# Altium integrated library Analog Devices Data Converters Digital-to-Analog Converters.IntLib: 2231 symbols (part 143 of 181)
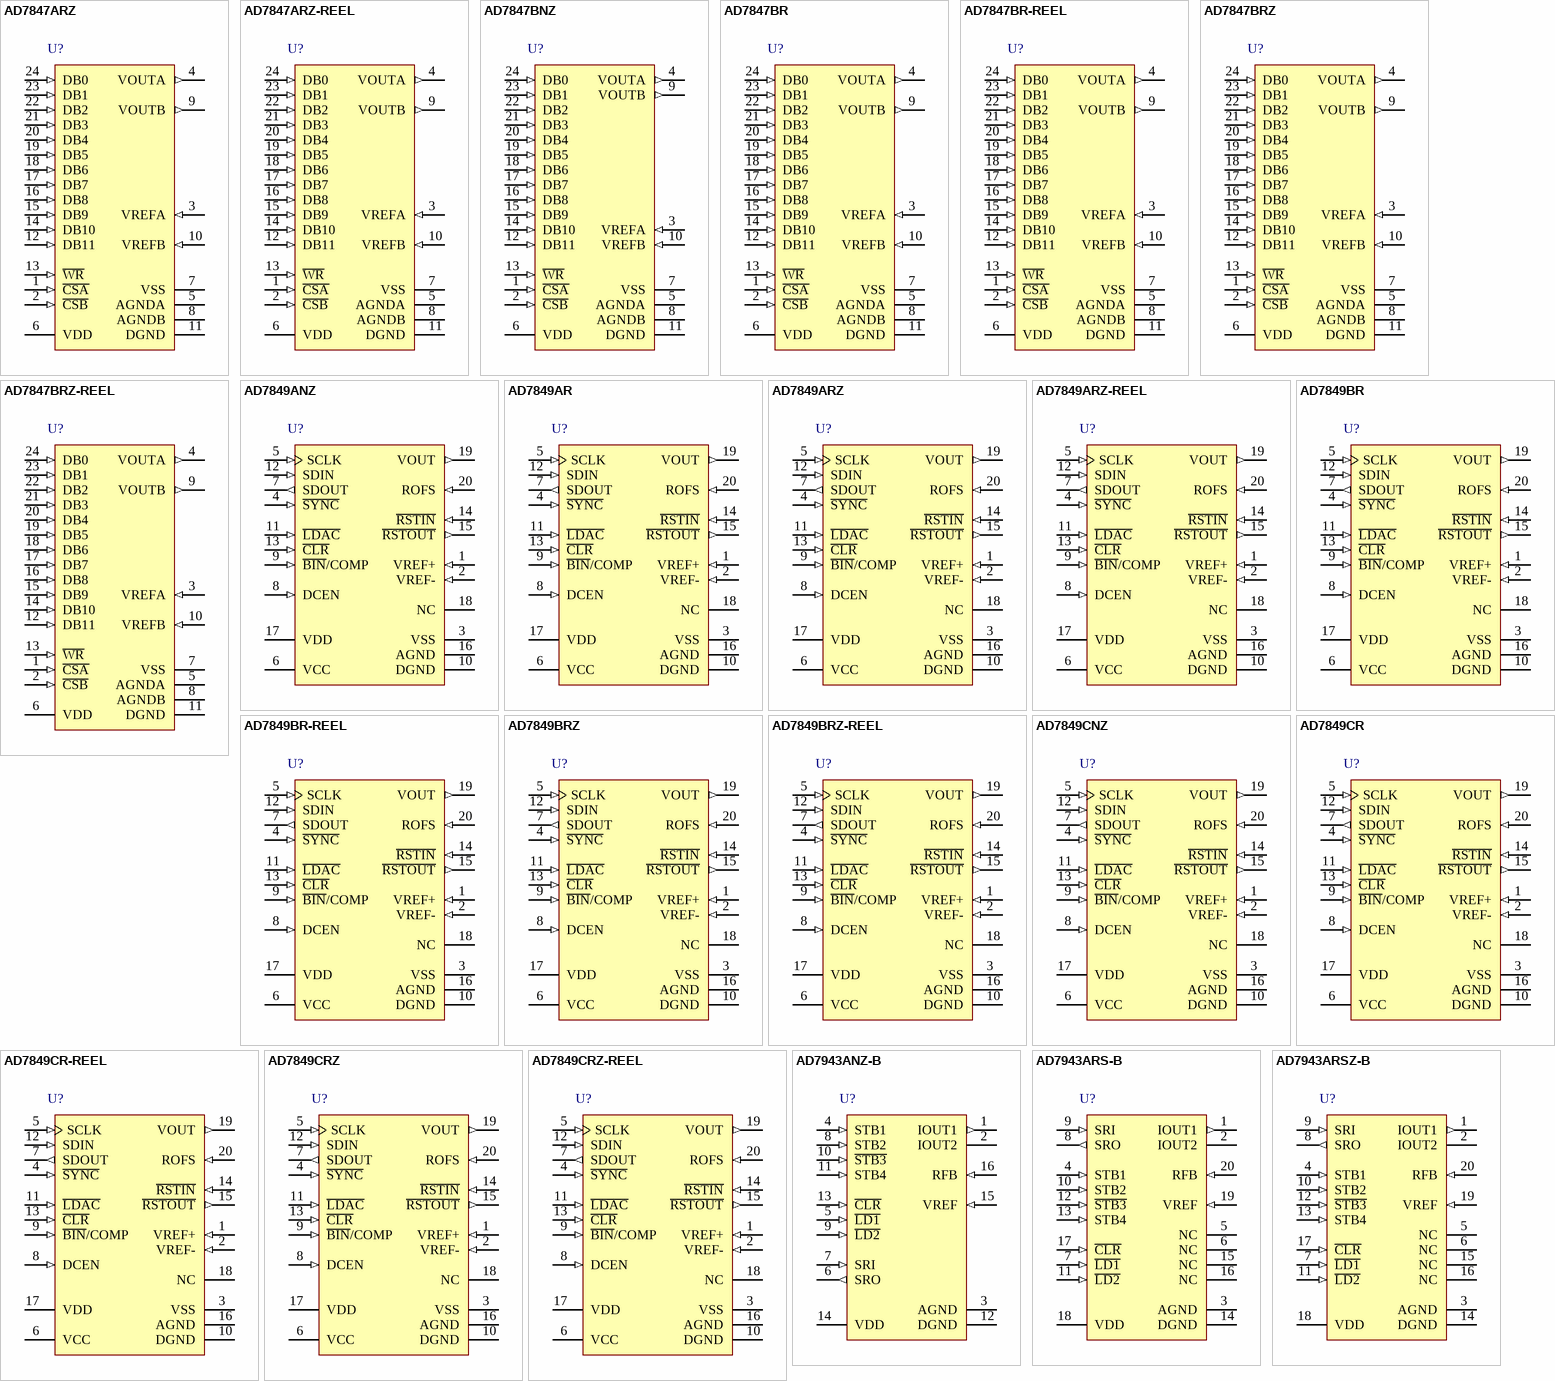
[diagram p256: symbols AD7847ARZ to AD7943ARSZ-B]

## AD7849BRZ
designator U?
Single 16-Bit Digital-to-Analog Converter with Serial Interface, 0 to 70 degC, RW-20, Pb-Free, Tube; Generic Part Number: AD7849; Manufacturer: Analog Devices; PartNumber: AD7849BRZ; # DAC Outputs: 1; Max V+: 15.75V; Op Pwr Diss: 163mW; Resolution (Bits): 16; Settling Time: 7µs; Single Supply: No; DatasheetVersion: Rev.C; PackageVersion: 060706-A; PackageReference: RW-20; PackageDescription: 20-Lead Standard Small Outline Package [SOIC_W] Wide Body; Supplier 1: Digi-Key; Supplier Part Number 1: AD7849BRZ-ND; Supplier 2: Farnell; Supplier Part Number 2: 2305687; Supplier 3: Newark; Supplier Part Number 3: 59K5666; Supplier 4: Mouser; Supplier Part Number 4: 584-AD7849BRZ; Packing: Tube; RoHS: Y; Mounting Technology: Surface Mount; Code_JEDEC: MS-013-AC; ComponentLink1Description: Manufacturer URL; ComponentLink1URL: http://www.analog.com/en/index.html; ComponentLink2Description: Datasheet; ComponentLink2URL: http://www.analog.com/static/imported-files/data_sheets/AD7849.pdf; ComponentLink3Description: Package Specification; ComponentLink3URL: http://www.analog.com/static/imported-files/packages/233848RW_20.pdf; ComponentLink4Description: Product URL; ComponentLink4URL: http://www.analog.com/en/digital-to-analog-converters/da-converters/ad7849/products/product.html
footprint RW-20_N (SOIC, 20-Leads, Body 12.8x7.5mm, Pitch 1.27mm, IPC Medium Density)
footprint RW-20_L (SOIC, 20-Leads, Body 12.8x7.5mm, Pitch 1.27mm, IPC High Density)
footprint RW-20_M (SOIC, 20-Leads, Body 12.8x7.5mm, Pitch 1.27mm, IPC Low Density)
pins: 1 VREF+ (in) "VREF+ Input. The DAC is specified for VREF+ of 5 V. The DAC is fully multiplying so that the VREF+ range is +5 V to -5 V.", 2 VREF- (in) "VREF- Input. The DAC is specified for VREF- of -5 V. The DAC is fully multiplying so that the VREF- range is -5 V to +5 V.", 3 VSS (power) "Negative supply for the analog circuitry. This is nominally -15 V.", 4 ~{SYNC} (in) "Data Synchronization Logic Input. When it goes low, the internal logic is initialized in readiness for a new data-word.", 5 SCLK (in) "Serial Clock Logic Input. Data is clocked into the input register on each SCLK falling edge.", 6 VCC (power) "Positive supply for the digital circuitry. This is nominally 5 V.", 7 SDOUT (out) "Serial Data Output. With DCEN at Logic 1, this output is enabled, and the serial data in the input shift register is clocked out on each rising edge of SCLK.", 8 DCEN (in) "Daisy-Chain Enable Logic Input. Connect this pin high if a daisy-chain interface is being used; otherwise, this pin must be connected low.", 9 ~{BIN}/COMP (in) "Logic Input. This input selects the data format to be either binary or twos complement. In the unipolar output range, natural binary format is selected by connecting the input to Logic 0. In the bipolar output range, offset (See Datasheet)", 10 DGND (power) "Digital Ground. Ground reference point for the on-chip digital circuitry.", 11 ~{LDAC} (in) "Load DAC Logic Input. This input updates the DAC output. The DAC output is updated on the falling edge of this signal, or alternatively, if this input is permanently low, an automatic update mode is selected where the DAC is (See Datasheet)", 12 SDIN (in) "Serial Data Input. The 16-bit serial data-word is applied to this input.", 13 ~{CLR} (in) "Clear Logic Input. Taking this input low sets VOUT to 0 V in both the unipolar output range and the bipolar twos complement output range. It sets VOUT to VREF- in the offset binary bipolar output range.", 14 ~{RSTIN} (in) "Reset Logic Input. This input allows external access to the internal reset logic. Applying Logic 0 to this input,resets the DAC output to 0 V. In normal operation, it should be tied to Logic 1.", 15 ~{RSTOUT} (out) "Reset Logic Output. This is the output from the on-chip voltage monitor used in the reset circuit. It can be used to control other system components, if desired", 16 AGND (power) "This is the analog ground for the device. It is the point to which the output gets shorted in reset mode.", 17 VDD (power) "Positive Supply for the Analog Circuitry. This is 15 V nominal.", 18 NC "No Connect. Leave unconnected.", 19 VOUT (out) "DAC Output Voltage Pin.", 20 ROFS (in) "Input to Summing Resistor of DAC Output Amplifier. This is used to select the output voltage ranges. Also, see Figure 20 to Figure 23 in the Applying the AD7849 section."

## AD7849BRZ-REEL
designator U?
Single 16-Bit Digital-to-Analog Converter with Serial Interface, 0 to 70 degC, RW-20, Pb-Free, Reel; Generic Part Number: AD7849; Manufacturer: Analog Devices; PartNumber: AD7849BRZ-REEL; # DAC Outputs: 1; Max V+: 15.75V; Op Pwr Diss: 163mW; Resolution (Bits): 16; Settling Time: 7µs; Single Supply: No; DatasheetVersion: Rev.C; PackageVersion: 060706-A; PackageReference: RW-20; PackageDescription: 20-Lead Standard Small Outline Package [SOIC_W] Wide Body; Supplier 1: Digi-Key; Supplier Part Number 1: AD7849BRZ-REEL-ND; Supplier 2: Newark; Supplier Part Number 2: 59K5667; Supplier 3: Mouser; Supplier Part Number 3: 584-AD7849BRZ-R; Packing: Reel; RoHS: Y; Mounting Technology: Surface Mount; Code_JEDEC: MS-013-AC; ComponentLink1Description: Manufacturer URL; ComponentLink1URL: http://www.analog.com/en/index.html; ComponentLink2Description: Datasheet; ComponentLink2URL: http://www.analog.com/static/imported-files/data_sheets/AD7849.pdf; ComponentLink3Description: Package Specification; ComponentLink3URL: http://www.analog.com/static/imported-files/packages/233848RW_20.pdf; ComponentLink4Description: Product URL; ComponentLink4URL: http://www.analog.com/en/digital-to-analog-converters/da-converters/ad7849/products/product.html
footprint RW-20_N (SOIC, 20-Leads, Body 12.8x7.5mm, Pitch 1.27mm, IPC Medium Density)
footprint RW-20_L (SOIC, 20-Leads, Body 12.8x7.5mm, Pitch 1.27mm, IPC High Density)
footprint RW-20_M (SOIC, 20-Leads, Body 12.8x7.5mm, Pitch 1.27mm, IPC Low Density)
pins: 1 VREF+ (in) "VREF+ Input. The DAC is specified for VREF+ of 5 V. The DAC is fully multiplying so that the VREF+ range is +5 V to -5 V.", 2 VREF- (in) "VREF- Input. The DAC is specified for VREF- of -5 V. The DAC is fully multiplying so that the VREF- range is -5 V to +5 V.", 3 VSS (power) "Negative supply for the analog circuitry. This is nominally -15 V.", 4 ~{SYNC} (in) "Data Synchronization Logic Input. When it goes low, the internal logic is initialized in readiness for a new data-word.", 5 SCLK (in) "Serial Clock Logic Input. Data is clocked into the input register on each SCLK falling edge.", 6 VCC (power) "Positive supply for the digital circuitry. This is nominally 5 V.", 7 SDOUT (out) "Serial Data Output. With DCEN at Logic 1, this output is enabled, and the serial data in the input shift register is clocked out on each rising edge of SCLK.", 8 DCEN (in) "Daisy-Chain Enable Logic Input. Connect this pin high if a daisy-chain interface is being used; otherwise, this pin must be connected low.", 9 ~{BIN}/COMP (in) "Logic Input. This input selects the data format to be either binary or twos complement. In the unipolar output range, natural binary format is selected by connecting the input to Logic 0. In the bipolar output range, offset (See Datasheet)", 10 DGND (power) "Digital Ground. Ground reference point for the on-chip digital circuitry.", 11 ~{LDAC} (in) "Load DAC Logic Input. This input updates the DAC output. The DAC output is updated on the falling edge of this signal, or alternatively, if this input is permanently low, an automatic update mode is selected where the DAC is (See Datasheet)", 12 SDIN (in) "Serial Data Input. The 16-bit serial data-word is applied to this input.", 13 ~{CLR} (in) "Clear Logic Input. Taking this input low sets VOUT to 0 V in both the unipolar output range and the bipolar twos complement output range. It sets VOUT to VREF- in the offset binary bipolar output range.", 14 ~{RSTIN} (in) "Reset Logic Input. This input allows external access to the internal reset logic. Applying Logic 0 to this input,resets the DAC output to 0 V. In normal operation, it should be tied to Logic 1.", 15 ~{RSTOUT} (out) "Reset Logic Output. This is the output from the on-chip voltage monitor used in the reset circuit. It can be used to control other system components, if desired", 16 AGND (power) "This is the analog ground for the device. It is the point to which the output gets shorted in reset mode.", 17 VDD (power) "Positive Supply for the Analog Circuitry. This is 15 V nominal.", 18 NC "No Connect. Leave unconnected.", 19 VOUT (out) "DAC Output Voltage Pin.", 20 ROFS (in) "Input to Summing Resistor of DAC Output Amplifier. This is used to select the output voltage ranges. Also, see Figure 20 to Figure 23 in the Applying the AD7849 section."

## AD7849CNZ
designator U?
Single 16-Bit Digital-to-Analog Converter with Serial Interface, -40 to +85 degC, N-20, Pb-Free, Tube; Generic Part Number: AD7849; Manufacturer: Analog Devices; PartNumber: AD7849CNZ; # DAC Outputs: 1; Max V+: 15.75V; Op Pwr Diss: 163mW; Resolution (Bits): 16; Settling Time: 7µs; Single Supply: No; DatasheetVersion: Rev.C; PackageVersion: 070706-A; PackageReference: N-20; PackageDescription: 20-Lead Plastic Dual In-Line Package [PDIP] Narrow Body; Supplier 1: Digi-Key; Supplier Part Number 1: AD7849CNZ-ND; Supplier 2: Mouser; Supplier Part Number 2: 584-AD7849CNZ; Packing: Tube; RoHS: Y; Mounting Technology: Through Hole; Code_JEDEC: MS-001; ComponentLink1Description: Manufacturer URL; ComponentLink1URL: http://www.analog.com/en/index.html; ComponentLink2Description: Datasheet; ComponentLink2URL: http://www.analog.com/static/imported-files/data_sheets/AD7849.pdf; ComponentLink3Description: Package Specification; ComponentLink3URL: http://www.analog.com/static/imported-files/packages/50601349676519N_20.pdf; ComponentLink4Description: Product URL; ComponentLink4URL: http://www.analog.com/en/digital-to-analog-converters/da-converters/ad7849/products/product.html
footprint N-20 (DIP, 20-Leads, Row Spacing 7.62mm, Pitch 2.54mm, Body 25.9x6.6mm)
pins: 1 VREF+ (in) "VREF+ Input. The DAC is specified for VREF+ of 5 V. The DAC is fully multiplying so that the VREF+ range is +5 V to -5 V.", 2 VREF- (in) "VREF? Input. The DAC is specified for VREF- of -5 V. The DAC is fully multiplying so that the VREF- range is -5 V to +5 V.", 3 VSS (power) "Negative supply for the analog circuitry. This is nominally -15 V.", 4 ~{SYNC} (in) "Data Synchronization Logic Input. When it goes low, the internal logic is initialized in readiness for a new data-word.", 5 SCLK (in) "Serial Clock Logic Input. Data is clocked into the input register on each SCLK falling edge.", 6 VCC (power) "Positive supply for the digital circuitry. This is nominally 5 V.", 7 SDOUT (out) "Serial Data Output. With DCEN at Logic 1, this output is enabled, and the serial data in the input shift register is clocked out on each rising edge of SCLK.", 8 DCEN (in) "Daisy-Chain Enable Logic Input. Connect this pin high if a daisy-chain interface is being used; otherwise, this pin must be connected low.", 9 ~{BIN}/COMP (in) "Logic Input. This input selects the data format to be either binary or twos complement. In the unipolar output range, natural binary format is selected by connecting the input to Logic 0. In the bipolar output range, offset (See Datasheet)", 10 DGND (power) "Digital Ground. Ground reference point for the on-chip digital circuitry.", 11 ~{LDAC} (in) "Load DAC Logic Input. This input updates the DAC output. The DAC output is updated on the falling edge of this signal, or alternatively, if this input is permanently low, an automatic update mode is selected where the DAC is (See Datasheet)", 12 SDIN (in) "Serial Data Input. The 16-bit serial data-word is applied to this input.", 13 ~{CLR} (in) "Clear Logic Input. Taking this input low sets VOUT to 0 V in both the unipolar output range and the bipolar twos complement output range. It sets VOUT to VREF- in the offset binary bipolar output range.", 14 ~{RSTIN} (in) "Reset Logic Input. This input allows external access to the internal reset logic. Applying Logic 0 to this input,resets the DAC output to 0 V. In normal operation, it should be tied to Logic 1.", 15 ~{RSTOUT} (out) "Reset Logic Output. This is the output from the on-chip voltage monitor used in the reset circuit. It can be used to control other system components, if desired", 16 AGND (power) "This is the analog ground for the device. It is the point to which the output gets shorted in reset mode.", 17 VDD (power) "Positive Supply for the Analog Circuitry. This is 15 V nominal.", 18 NC "No Connect. Leave unconnected.", 19 VOUT (out) "DAC Output Voltage Pin.", 20 ROFS (in) "Input to Summing Resistor of DAC Output Amplifier. This is used to select the output voltage ranges. Also, see Figure 20 to Figure 23 in the Applying the AD7849 section."

## AD7849CR
designator U?
Single 16-Bit Digital-to-Analog Converter with Serial Interface, -40 to +85 degC, RW-20, Tube; Generic Part Number: AD7849; Manufacturer: Analog Devices; PartNumber: AD7849CR; # DAC Outputs: 1; Max V+: 15.75V; Op Pwr Diss: 163mW; Resolution (Bits): 16; Settling Time: 7µs; Single Supply: No; DatasheetVersion: Rev.C; PackageVersion: 060706-A; PackageReference: RW-20; PackageDescription: 20-Lead Standard Small Outline Package [SOIC_W] Wide Body; Supplier 1: Digi-Key; Supplier Part Number 1: AD7849CR-ND; Supplier 2: Mouser; Supplier Part Number 2: 584-AD7849CR; Packing: Tube; RoHS: N; Mounting Technology: Surface Mount; Code_JEDEC: MS-013-AC; ComponentLink1Description: Manufacturer URL; ComponentLink1URL: http://www.analog.com/en/index.html; ComponentLink2Description: Datasheet; ComponentLink2URL: http://www.analog.com/static/imported-files/data_sheets/AD7849.pdf; ComponentLink3Description: Package Specification; ComponentLink3URL: http://www.analog.com/static/imported-files/packages/233848RW_20.pdf; ComponentLink4Description: Product URL; ComponentLink4URL: http://www.analog.com/en/digital-to-analog-converters/da-converters/ad7849/products/product.html
footprint RW-20_N (SOIC, 20-Leads, Body 12.8x7.5mm, Pitch 1.27mm, IPC Medium Density)
footprint RW-20_L (SOIC, 20-Leads, Body 12.8x7.5mm, Pitch 1.27mm, IPC High Density)
footprint RW-20_M (SOIC, 20-Leads, Body 12.8x7.5mm, Pitch 1.27mm, IPC Low Density)
pins: 1 VREF+ (in) "VREF+ Input. The DAC is specified for VREF+ of 5 V. The DAC is fully multiplying so that the VREF+ range is +5 V to -5 V.", 2 VREF- (in) "VREF- Input. The DAC is specified for VREF- of -5 V. The DAC is fully multiplying so that the VREF- range is -5 V to +5 V.", 3 VSS (power) "Negative supply for the analog circuitry. This is nominally -15 V.", 4 ~{SYNC} (in) "Data Synchronization Logic Input. When it goes low, the internal logic is initialized in readiness for a new data-word.", 5 SCLK (in) "Serial Clock Logic Input. Data is clocked into the input register on each SCLK falling edge.", 6 VCC (power) "Positive supply for the digital circuitry. This is nominally 5 V.", 7 SDOUT (out) "Serial Data Output. With DCEN at Logic 1, this output is enabled, and the serial data in the input shift register is clocked out on each rising edge of SCLK.", 8 DCEN (in) "Daisy-Chain Enable Logic Input. Connect this pin high if a daisy-chain interface is being used; otherwise, this pin must be connected low.", 9 ~{BIN}/COMP (in) "Logic Input. This input selects the data format to be either binary or twos complement. In the unipolar output range, natural binary format is selected by connecting the input to Logic 0. In the bipolar output range, offset (See Datasheet)", 10 DGND (power) "Digital Ground. Ground reference point for the on-chip digital circuitry.", 11 ~{LDAC} (in) "Load DAC Logic Input. This input updates the DAC output. The DAC output is updated on the falling edge of this signal, or alternatively, if this input is permanently low, an automatic update mode is selected where the DAC is (See Datasheet)", 12 SDIN (in) "Serial Data Input. The 16-bit serial data-word is applied to this input.", 13 ~{CLR} (in) "Clear Logic Input. Taking this input low sets VOUT to 0 V in both the unipolar output range and the bipolar twos complement output range. It sets VOUT to VREF- in the offset binary bipolar output range.", 14 ~{RSTIN} (in) "Reset Logic Input. This input allows external access to the internal reset logic. Applying Logic 0 to this input,resets the DAC output to 0 V. In normal operation, it should be tied to Logic 1.", 15 ~{RSTOUT} (out) "Reset Logic Output. This is the output from the on-chip voltage monitor used in the reset circuit. It can be used to control other system components, if desired", 16 AGND (power) "This is the analog ground for the device. It is the point to which the output gets shorted in reset mode.", 17 VDD (power) "Positive Supply for the Analog Circuitry. This is 15 V nominal.", 18 NC "No Connect. Leave unconnected.", 19 VOUT (out) "DAC Output Voltage Pin.", 20 ROFS (in) "Input to Summing Resistor of DAC Output Amplifier. This is used to select the output voltage ranges. Also, see Figure 20 to Figure 23 in the Applying the AD7849 section."

## AD7849CR-REEL
designator U?
Single 16-Bit Digital-to-Analog Converter with Serial Interface, -40 to +85 degC, RW-20, Reel; Generic Part Number: AD7849; Manufacturer: Analog Devices; PartNumber: AD7849CR-REEL; # DAC Outputs: 1; Max V+: 15.75V; Op Pwr Diss: 163mW; Resolution (Bits): 16; Settling Time: 7µs; Single Supply: No; DatasheetVersion: Rev.C; PackageVersion: 060706-A; PackageReference: RW-20; PackageDescription: 20-Lead Standard Small Outline Package [SOIC_W] Wide Body; Supplier 1: Digi-Key; Supplier Part Number 1: AD7849CR-REEL-ND; Supplier 2: Mouser; Supplier Part Number 2: 584-AD7849CR-R; Packing: Reel; RoHS: N; Mounting Technology: Surface Mount; Code_JEDEC: MS-013-AC; ComponentLink1Description: Manufacturer URL; ComponentLink1URL: http://www.analog.com/en/index.html; ComponentLink2Description: Datasheet; ComponentLink2URL: http://www.analog.com/static/imported-files/data_sheets/AD7849.pdf; ComponentLink3Description: Package Specification; ComponentLink3URL: http://www.analog.com/static/imported-files/packages/233848RW_20.pdf; ComponentLink4Description: Product URL; ComponentLink4URL: http://www.analog.com/en/digital-to-analog-converters/da-converters/ad7849/products/product.html
footprint RW-20_N (SOIC, 20-Leads, Body 12.8x7.5mm, Pitch 1.27mm, IPC Medium Density)
footprint RW-20_L (SOIC, 20-Leads, Body 12.8x7.5mm, Pitch 1.27mm, IPC High Density)
footprint RW-20_M (SOIC, 20-Leads, Body 12.8x7.5mm, Pitch 1.27mm, IPC Low Density)
pins: 1 VREF+ (in) "VREF+ Input. The DAC is specified for VREF+ of 5 V. The DAC is fully multiplying so that the VREF+ range is +5 V to -5 V.", 2 VREF- (in) "VREF- Input. The DAC is specified for VREF- of -5 V. The DAC is fully multiplying so that the VREF- range is -5 V to +5 V.", 3 VSS (power) "Negative supply for the analog circuitry. This is nominally -15 V.", 4 ~{SYNC} (in) "Data Synchronization Logic Input. When it goes low, the internal logic is initialized in readiness for a new data-word.", 5 SCLK (in) "Serial Clock Logic Input. Data is clocked into the input register on each SCLK falling edge.", 6 VCC (power) "Positive supply for the digital circuitry. This is nominally 5 V.", 7 SDOUT (out) "Serial Data Output. With DCEN at Logic 1, this output is enabled, and the serial data in the input shift register is clocked out on each rising edge of SCLK.", 8 DCEN (in) "Daisy-Chain Enable Logic Input. Connect this pin high if a daisy-chain interface is being used; otherwise, this pin must be connected low.", 9 ~{BIN}/COMP (in) "Logic Input. This input selects the data format to be either binary or twos complement. In the unipolar output range, natural binary format is selected by connecting the input to Logic 0. In the bipolar output range, offset (See Datasheet)", 10 DGND (power) "Digital Ground. Ground reference point for the on-chip digital circuitry.", 11 ~{LDAC} (in) "Load DAC Logic Input. This input updates the DAC output. The DAC output is updated on the falling edge of this signal, or alternatively, if this input is permanently low, an automatic update mode is selected where the DAC is (See Datasheet)", 12 SDIN (in) "Serial Data Input. The 16-bit serial data-word is applied to this input.", 13 ~{CLR} (in) "Clear Logic Input. Taking this input low sets VOUT to 0 V in both the unipolar output range and the bipolar twos complement output range. It sets VOUT to VREF- in the offset binary bipolar output range.", 14 ~{RSTIN} (in) "Reset Logic Input. This input allows external access to the internal reset logic. Applying Logic 0 to this input,resets the DAC output to 0 V. In normal operation, it should be tied to Logic 1.", 15 ~{RSTOUT} (out) "Reset Logic Output. This is the output from the on-chip voltage monitor used in the reset circuit. It can be used to control other system components, if desired", 16 AGND (power) "This is the analog ground for the device. It is the point to which the output gets shorted in reset mode.", 17 VDD (power) "Positive Supply for the Analog Circuitry. This is 15 V nominal.", 18 NC "No Connect. Leave unconnected.", 19 VOUT (out) "DAC Output Voltage Pin.", 20 ROFS (in) "Input to Summing Resistor of DAC Output Amplifier. This is used to select the output voltage ranges. Also, see Figure 20 to Figure 23 in the Applying the AD7849 section."

## AD7849CRZ
designator U?
Single 16-Bit Digital-to-Analog Converter with Serial Interface, 0 to 70 degC, RW-20, Pb-Free, Tube; Generic Part Number: AD7849; Manufacturer: Analog Devices; PartNumber: AD7849CRZ; # DAC Outputs: 1; Max V+: 15.75V; Op Pwr Diss: 163mW; Resolution (Bits): 16; Settling Time: 7µs; Single Supply: No; DatasheetVersion: Rev.C; PackageVersion: 060706-A; PackageReference: RW-20; PackageDescription: 20-Lead Standard Small Outline Package [SOIC_W] Wide Body; Supplier 1: Digi-Key; Supplier Part Number 1: AD7849CRZ-ND; Supplier 2: Farnell; Supplier Part Number 2: 2305688; Supplier 3: Newark; Supplier Part Number 3: 84W7448; Supplier 4: Newark; Supplier Part Number 4: 59K5668; Supplier 5: Mouser; Supplier Part Number 5: 584-AD7849CRZ; Packing: Tube; RoHS: Y; Mounting Technology: Surface Mount; Code_JEDEC: MS-013-AC; ComponentLink1Description: Manufacturer URL; ComponentLink1URL: http://www.analog.com/en/index.html; ComponentLink2Description: Datasheet; ComponentLink2URL: http://www.analog.com/static/imported-files/data_sheets/AD7849.pdf; ComponentLink3Description: Package Specification; ComponentLink3URL: http://www.analog.com/static/imported-files/packages/233848RW_20.pdf; ComponentLink4Description: Product URL; ComponentLink4URL: http://www.analog.com/en/digital-to-analog-converters/da-converters/ad7849/products/product.html
footprint RW-20_N (SOIC, 20-Leads, Body 12.8x7.5mm, Pitch 1.27mm, IPC Medium Density)
footprint RW-20_L (SOIC, 20-Leads, Body 12.8x7.5mm, Pitch 1.27mm, IPC High Density)
footprint RW-20_M (SOIC, 20-Leads, Body 12.8x7.5mm, Pitch 1.27mm, IPC Low Density)
pins: 1 VREF+ (in) "VREF+ Input. The DAC is specified for VREF+ of 5 V. The DAC is fully multiplying so that the VREF+ range is +5 V to -5 V.", 2 VREF- (in) "VREF- Input. The DAC is specified for VREF- of -5 V. The DAC is fully multiplying so that the VREF- range is -5 V to +5 V.", 3 VSS (power) "Negative supply for the analog circuitry. This is nominally -15 V.", 4 ~{SYNC} (in) "Data Synchronization Logic Input. When it goes low, the internal logic is initialized in readiness for a new data-word.", 5 SCLK (in) "Serial Clock Logic Input. Data is clocked into the input register on each SCLK falling edge.", 6 VCC (power) "Positive supply for the digital circuitry. This is nominally 5 V.", 7 SDOUT (out) "Serial Data Output. With DCEN at Logic 1, this output is enabled, and the serial data in the input shift register is clocked out on each rising edge of SCLK.", 8 DCEN (in) "Daisy-Chain Enable Logic Input. Connect this pin high if a daisy-chain interface is being used; otherwise, this pin must be connected low.", 9 ~{BIN}/COMP (in) "Logic Input. This input selects the data format to be either binary or twos complement. In the unipolar output range, natural binary format is selected by connecting the input to Logic 0. In the bipolar output range, offset (See Datasheet)", 10 DGND (power) "Digital Ground. Ground reference point for the on-chip digital circuitry.", 11 ~{LDAC} (in) "Load DAC Logic Input. This input updates the DAC output. The DAC output is updated on the falling edge of this signal, or alternatively, if this input is permanently low, an automatic update mode is selected where the DAC is (See Datasheet)", 12 SDIN (in) "Serial Data Input. The 16-bit serial data-word is applied to this input.", 13 ~{CLR} (in) "Clear Logic Input. Taking this input low sets VOUT to 0 V in both the unipolar output range and the bipolar twos complement output range. It sets VOUT to VREF- in the offset binary bipolar output range.", 14 ~{RSTIN} (in) "Reset Logic Input. This input allows external access to the internal reset logic. Applying Logic 0 to this input,resets the DAC output to 0 V. In normal operation, it should be tied to Logic 1.", 15 ~{RSTOUT} (out) "Reset Logic Output. This is the output from the on-chip voltage monitor used in the reset circuit. It can be used to control other system components, if desired", 16 AGND (power) "This is the analog ground for the device. It is the point to which the output gets shorted in reset mode.", 17 VDD (power) "Positive Supply for the Analog Circuitry. This is 15 V nominal.", 18 NC "No Connect. Leave unconnected.", 19 VOUT (out) "DAC Output Voltage Pin.", 20 ROFS (in) "Input to Summing Resistor of DAC Output Amplifier. This is used to select the output voltage ranges. Also, see Figure 20 to Figure 23 in the Applying the AD7849 section."

## AD7849CRZ-REEL
designator U?
Single 16-Bit Digital-to-Analog Converter with Serial Interface, 0 to 70 degC, RW-20, Pb-Free, Reel; Generic Part Number: AD7849; Manufacturer: Analog Devices; PartNumber: AD7849CRZ-REEL; # DAC Outputs: 1; Max V+: 15.75V; Op Pwr Diss: 163mW; Resolution (Bits): 16; Settling Time: 7µs; Single Supply: No; DatasheetVersion: Rev.C; PackageVersion: 060706-A; PackageReference: RW-20; PackageDescription: 20-Lead Standard Small Outline Package [SOIC_W] Wide Body; Supplier 1: Digi-Key; Supplier Part Number 1: AD7849CRZ-REEL-ND; Supplier 2: Newark; Supplier Part Number 2: 59K5669; Supplier 3: Mouser; Supplier Part Number 3: 584-AD7849CRZ-R; Packing: Reel; RoHS: Y; Mounting Technology: Surface Mount; Code_JEDEC: MS-013-AC; ComponentLink1Description: Manufacturer URL; ComponentLink1URL: http://www.analog.com/en/index.html; ComponentLink2Description: Datasheet; ComponentLink2URL: http://www.analog.com/static/imported-files/data_sheets/AD7849.pdf; ComponentLink3Description: Package Specification; ComponentLink3URL: http://www.analog.com/static/imported-files/packages/233848RW_20.pdf; ComponentLink4Description: Product URL; ComponentLink4URL: http://www.analog.com/en/digital-to-analog-converters/da-converters/ad7849/products/product.html
footprint RW-20_N (SOIC, 20-Leads, Body 12.8x7.5mm, Pitch 1.27mm, IPC Medium Density)
footprint RW-20_L (SOIC, 20-Leads, Body 12.8x7.5mm, Pitch 1.27mm, IPC High Density)
footprint RW-20_M (SOIC, 20-Leads, Body 12.8x7.5mm, Pitch 1.27mm, IPC Low Density)
pins: 1 VREF+ (in) "VREF+ Input. The DAC is specified for VREF+ of 5 V. The DAC is fully multiplying so that the VREF+ range is +5 V to -5 V.", 2 VREF- (in) "VREF- Input. The DAC is specified for VREF- of -5 V. The DAC is fully multiplying so that the VREF- range is -5 V to +5 V.", 3 VSS (power) "Negative supply for the analog circuitry. This is nominally -15 V.", 4 ~{SYNC} (in) "Data Synchronization Logic Input. When it goes low, the internal logic is initialized in readiness for a new data-word.", 5 SCLK (in) "Serial Clock Logic Input. Data is clocked into the input register on each SCLK falling edge.", 6 VCC (power) "Positive supply for the digital circuitry. This is nominally 5 V.", 7 SDOUT (out) "Serial Data Output. With DCEN at Logic 1, this output is enabled, and the serial data in the input shift register is clocked out on each rising edge of SCLK.", 8 DCEN (in) "Daisy-Chain Enable Logic Input. Connect this pin high if a daisy-chain interface is being used; otherwise, this pin must be connected low.", 9 ~{BIN}/COMP (in) "Logic Input. This input selects the data format to be either binary or twos complement. In the unipolar output range, natural binary format is selected by connecting the input to Logic 0. In the bipolar output range, offset (See Datasheet)", 10 DGND (power) "Digital Ground. Ground reference point for the on-chip digital circuitry.", 11 ~{LDAC} (in) "Load DAC Logic Input. This input updates the DAC output. The DAC output is updated on the falling edge of this signal, or alternatively, if this input is permanently low, an automatic update mode is selected where the DAC is (See Datasheet)", 12 SDIN (in) "Serial Data Input. The 16-bit serial data-word is applied to this input.", 13 ~{CLR} (in) "Clear Logic Input. Taking this input low sets VOUT to 0 V in both the unipolar output range and the bipolar twos complement output range. It sets VOUT to VREF- in the offset binary bipolar output range.", 14 ~{RSTIN} (in) "Reset Logic Input. This input allows external access to the internal reset logic. Applying Logic 0 to this input,resets the DAC output to 0 V. In normal operation, it should be tied to Logic 1.", 15 ~{RSTOUT} (out) "Reset Logic Output. This is the output from the on-chip voltage monitor used in the reset circuit. It can be used to control other system components, if desired", 16 AGND (power) "This is the analog ground for the device. It is the point to which the output gets shorted in reset mode.", 17 VDD (power) "Positive Supply for the Analog Circuitry. This is 15 V nominal.", 18 NC "No Connect. Leave unconnected.", 19 VOUT (out) "DAC Output Voltage Pin.", 20 ROFS (in) "Input to Summing Resistor of DAC Output Amplifier. This is used to select the output voltage ranges. Also, see Figure 20 to Figure 23 in the Applying the AD7849 section."

## AD7943ANZ-B
designator U?
Single 12-Bit Multiplying Digital-to-Analog Converter, 3.3 V / 5 V, -40 to +85 degC, N-16, Pb-Free, Tube; Generic Part Number: AD7943; Manufacturer: Analog Devices; PartNumber: AD7943ANZ-B; # DAC Outputs: 1; Max V+: 5.5V; Op Pwr Diss: 25µW; Resolution (Bits): 12; Settling Time: 600ns; Single Supply: Yes; DatasheetVersion: Rev.B; PackageVersion: 070706-A; PackageReference: N-16; PackageDescription: 16-Lead Plastic Dual In-Line Package [PDIP] Narrow Body; Supplier 1: Digi-Key; Supplier Part Number 1: AD7943ANZ-B-ND; Supplier 2: Mouser; Supplier Part Number 2: 584-AD7943ANZ-B; Packing: Tube; RoHS: Y; Mounting Technology: Through Hole; Code_JEDEC: MS-001; ComponentLink1Description: Manufacturer URL; ComponentLink1URL: http://www.analog.com/en/index.html; ComponentLink2Description: Datasheet; ComponentLink2URL: http://www.analog.com/static/imported-files/data_sheets/AD7943_7945_7948.pdf; ComponentLink3Description: Package Specification; ComponentLink3URL: http://www.analog.com/static/imported-files/packages/44768431550332N_16.pdf; ComponentLink4Description: Product URL; ComponentLink4URL: http://www.analog.com/en/digital-to-analog-converters/da-converters/ad7943/products/product.html
footprint N-16 (DIP, 16-Leads, Row Spacing 7.62mm, Pitch 2.54mm, Body 20.1x6.6mm)
pins: 1 IOUT1 (out) "DAC current output terminal 1.", 2 IOUT2 "DAC current output terminal 2. This should be connected to the AGND pin.", 3 AGND (power) "This pin connects to the back gates of the current steering switches. In normal operation, it should be connected to the signal ground of the system. In biased single-supply operation it may be biased to some voltage between (See Datasheet)", 4 STB1 (in) "This is the Strobe 1 input. Data is clocked into the input shift register on the rising edge of this signal. S\T\B\3\ must be high. STB2, STB4 must be low.", 5 ~{LD1} (in) "Active low inputs. When both of these are low, the DAC register is updated and the output will change to reflect this.", 6 SRO (out), 7 SRI (in) "Serial Data Input. Data on this line will be clocked into the input shift register on one of the Strobe inputs, when they are enabled.", 8 STB2 (in) "This is the Strobe 2 input. Data is clocked into the input shift register on the rising edge of this signal. S\T\B\3\ must be high. STB1, STB4 must be low.", 9 ~{LD2} (in) "Active low inputs. When both of these are low, the DAC register is updated and the output will change to reflect this.", 10 ~{STB3} (in) "This is the Strobe 3 input. Data is clocked into the input shift register on the falling edge of this signal. STB1, STB2, STB4, must be low.", 11 STB4 (in) "This is the Strobe 4 input. Data is clocked into the input shift register on the rising edge of this signal. S\T\B\3\ must be high. STB1, STB2 must be low.", 12 DGND (power) "Digital Ground.", 13 ~{CLR} (in) "Asynchronous C\L\R\ input. When this input is taken low, all 0s are loaded to the DAC latch.", 14 VDD (power) "Power supply input. This is nominally +5 V for Normal Mode Operation and +3.3 V to +5 V for Biased Mode Operation.", 15 VREF (in) "DAC reference input.", 16 RFB (in) "DAC feedback resistor pin."

## AD7943ARS-B
designator U?
Single 12-Bit Multiplying Digital-to-Analog Converter, 3.3 V / 5 V, -40 to +85 degC, RS-20, Tube; Generic Part Number: AD7943; Manufacturer: Analog Devices; PartNumber: AD7943ARS-B; # DAC Outputs: 1; Max V+: 5.5V; Op Pwr Diss: 25µW; Resolution (Bits): 12; Settling Time: 600ns; Single Supply: Yes; DatasheetVersion: Rev.B; PackageVersion: Mar-2003; PackageReference: RS-20; PackageDescription: 20-Lead Shrink Small Outline Package [SSOP]; Supplier 1: Digi-Key; Supplier Part Number 1: AD7943ARS-B-ND; Supplier 2: Mouser; Supplier Part Number 2: 584-AD7943ARS-B; Packing: Tube; RoHS: N; Mounting Technology: Surface Mount; Code_JEDEC: MO-150AE; ComponentLink1Description: Manufacturer URL; ComponentLink1URL: http://www.analog.com/en/index.html; ComponentLink2Description: Datasheet; ComponentLink2URL: http://www.analog.com/static/imported-files/data_sheets/AD7943_7945_7948.pdf; ComponentLink3Description: Package Specification; ComponentLink3URL: http://www.analog.com/static/imported-files/packages/318405805657546556503576154334802686596RS_20.pdf; ComponentLink4Description: Product URL; ComponentLink4URL: http://www.analog.com/en/digital-to-analog-converters/da-converters/ad7943/products/product.html
footprint RS-20_N (SOP, 20-Leads, Body 7.2x5.3mm, Pitch 0.65mm, IPC Medium Density)
footprint RS-20_L (SOP, 20-Leads, Body 7.2x5.3mm, Pitch 0.65mm, IPC High Density)
footprint RS-20_M (SOP, 20-Leads, Body 7.2x5.3mm, Pitch 0.65mm, IPC Low Density)
pins: 1 IOUT1 (out) "DAC current output terminal 1.", 2 IOUT2 "DAC current output terminal 2. This should be connected to the AGND pin.", 3 AGND (power) "This pin connects to the back gates of the current steering switches. In normal operation, it should be connected to the signal ground of the system. In biased single-supply operation it may be biased to some voltage between (See Datasheet)", 4 STB1 (in) "This is the Strobe 1 input. Data is clocked into the input shift register on the rising edge of this signal. S\T\B\3\ must be high. STB2, STB4 must be low.", 5 NC "No connect.", 6 NC "No connect.", 7 ~{LD1} (in) "Active low input. When both of these are low, the DAC register is updated and the output will change to reflect this.", 8 SRO (out), 9 SRI (in) "Serial Data Input. Data on this line will be clocked into the input shift register on one of the Strobe inputs, when they are enabled.", 10 STB2 (in) "This is the Strobe 2 input. Data is clocked into the input shift register on the rising edge of this signal. S\T\B\3\ must be high. STB1, STB4 must be low.", 11 ~{LD2} (in) "Active low input. When both of these are low, the DAC register is updated and the output will change to reflect this.", 12 ~{STB3} (in) "This is the Strobe 3 input. Data is clocked into the input shift register on the falling edge of this signal. STB1, STB2, STB4, must be low.", 13 STB4 (in) "This is the Strobe 4 input. Data is clocked into the input shift register on the rising edge of this signal. S\T\B\3\ must be high. STB1, STB2 must be low.", 14 DGND (power) "Digital Ground.", 15 NC "No connect.", 16 NC "No connect.", 17 ~{CLR} (in) "Asynchronous C\L\R\ input. When this input is taken low, all 0s are loaded to the DAC latch.", 18 VDD (power) "Power supply input. This is nominally +5 V for Normal Mode Operation and +3.3 V to +5 V for Biased Mode Operation.", 19 VREF (in) "DAC reference input.", 20 RFB (in) "DAC feedback resistor pin."

## AD7943ARSZ-B
designator U?
Single 12-Bit Multiplying Digital-to-Analog Converter, 3.3 V / 5 V, -40 to +85 degC, RS-20, Pb-Free, Tube; Generic Part Number: AD7943; Manufacturer: Analog Devices; PartNumber: AD7943ARSZ-B; # DAC Outputs: 1; Max V+: 5.5V; Op Pwr Diss: 25µW; Resolution (Bits): 12; Settling Time: 600ns; Single Supply: Yes; DatasheetVersion: Rev.B; PackageVersion: Mar-2003; PackageReference: RS-20; PackageDescription: 20-Lead Shrink Small Outline Package [SSOP]; Supplier 1: Digi-Key; Supplier Part Number 1: AD7943ARSZ-B-ND; Supplier 2: Mouser; Supplier Part Number 2: 584-AD7943ARSZ-B; Packing: Tube; RoHS: Y; Mounting Technology: Surface Mount; Code_JEDEC: MO-150AE; ComponentLink1Description: Manufacturer URL; ComponentLink1URL: http://www.analog.com/en/index.html; ComponentLink2Description: Datasheet; ComponentLink2URL: http://www.analog.com/static/imported-files/data_sheets/AD7943_7945_7948.pdf; ComponentLink3Description: Package Specification; ComponentLink3URL: http://www.analog.com/static/imported-files/packages/318405805657546556503576154334802686596RS_20.pdf; ComponentLink4Description: Product URL; ComponentLink4URL: http://www.analog.com/en/digital-to-analog-converters/da-converters/ad7943/products/product.html
footprint RS-20_N (SOP, 20-Leads, Body 7.2x5.3mm, Pitch 0.65mm, IPC Medium Density)
footprint RS-20_L (SOP, 20-Leads, Body 7.2x5.3mm, Pitch 0.65mm, IPC High Density)
footprint RS-20_M (SOP, 20-Leads, Body 7.2x5.3mm, Pitch 0.65mm, IPC Low Density)
pins: 1 IOUT1 (out) "DAC current output terminal 1.", 2 IOUT2 "DAC current output terminal 2. This should be connected to the AGND pin.", 3 AGND (power) "This pin connects to the back gates of the current steering switches. In normal operation, it should be connected to the signal ground of the system. In biased single-supply operation it may be biased to some voltage between (See Datasheet)", 4 STB1 (in) "This is the Strobe 1 input. Data is clocked into the input shift register on the rising edge of this signal. S\T\B\3\ must be high. STB2, STB4 must be low.", 5 NC "No connect.", 6 NC "No connect.", 7 ~{LD1} (in) "Active low input. When both of these are low, the DAC register is updated and the output will change to reflect this.", 8 SRO (out), 9 SRI (in) "Serial Data Input. Data on this line will be clocked into the input shift register on one of the Strobe inputs, when they are enabled.", 10 STB2 (in) "This is the Strobe 2 input. Data is clocked into the input shift register on the rising edge of this signal. S\T\B\3\ must be high. STB1, STB4 must be low.", 11 ~{LD2} (in) "Active low input. When both of these are low, the DAC register is updated and the output will change to reflect this.", 12 ~{STB3} (in) "This is the Strobe 3 input. Data is clocked into the input shift register on the falling edge of this signal. STB1, STB2, STB4, must be low.", 13 STB4 (in) "This is the Strobe 4 input. Data is clocked into the input shift register on the rising edge of this signal. S\T\B\3\ must be high. STB1, STB2 must be low.", 14 DGND (power) "Digital Ground.", 15 NC "No connect.", 16 NC "No connect.", 17 ~{CLR} (in) "Asynchronous C\L\R\ input. When this input is taken low, all 0s are loaded to the DAC latch.", 18 VDD (power) "Power supply input. This is nominally +5 V for Normal Mode Operation and +3.3 V to +5 V for Biased Mode Operation.", 19 VREF (in) "DAC reference input.", 20 RFB (in) "DAC feedback resistor pin."

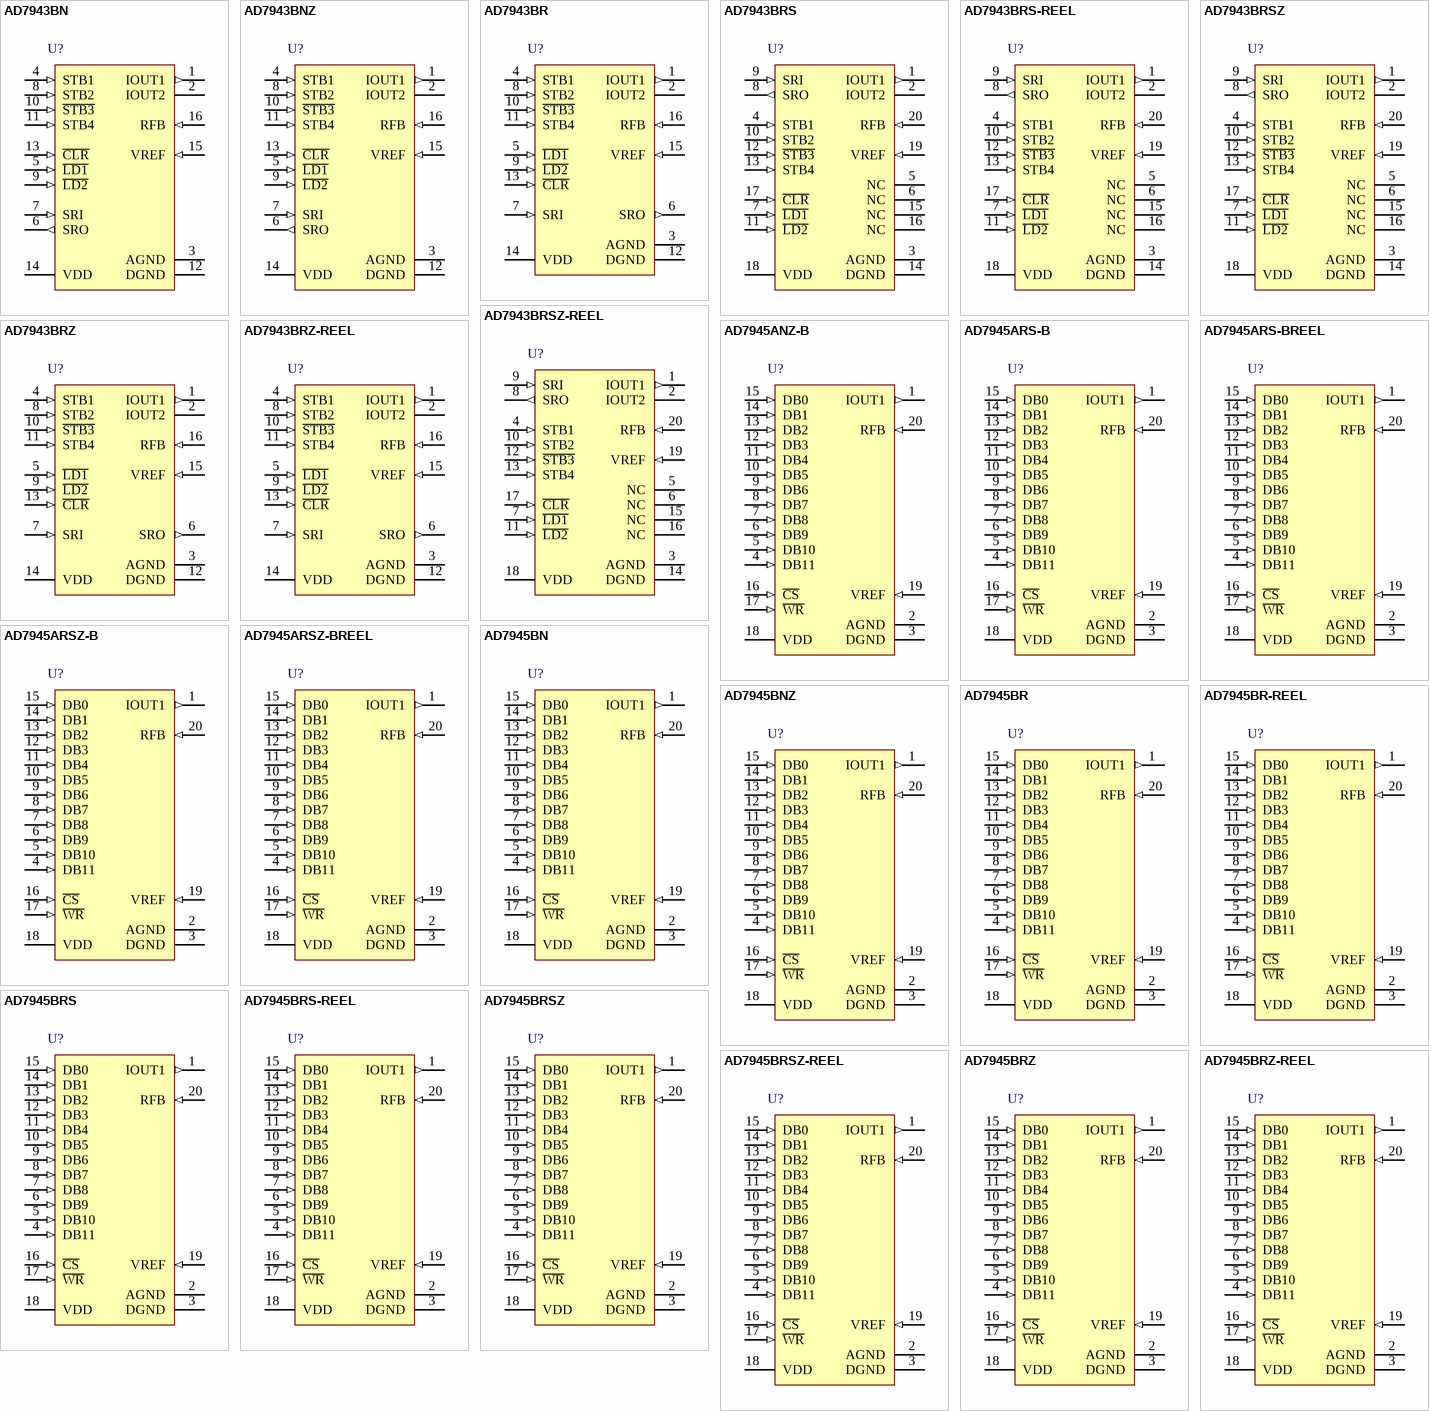
[diagram p80: symbols AD7943BN to AD7945BRZ-REEL]

## AD7943BN
designator U?
Single 12-Bit Multiplying Digital-to-Analog Converter, 3.3 V / 5 V, -40 to +85 degC, N-16, Tube; Generic Part Number: AD7943; Manufacturer: Analog Devices; PartNumber: AD7943BN; # DAC Outputs: 1; Max V+: 5.5V; Op Pwr Diss: 25µW; Resolution (Bits): 12; Settling Time: 600ns; Single Supply: Yes; DatasheetVersion: Rev.B; PackageVersion: 070706-A; PackageReference: N-16; PackageDescription: 16-Lead Plastic Dual In-Line Package [PDIP] Narrow Body; Supplier 1: Digi-Key; Supplier Part Number 1: AD7943BN-ND; Supplier 2: Farnell; Supplier Part Number 2: 787085; Supplier 3: Newark; Supplier Part Number 3: 66F2920; Supplier 4: Mouser; Supplier Part Number 4: 584-AD7943BN; Packing: Tube; RoHS: N; Mounting Technology: Through Hole; Code_JEDEC: MS-001; ComponentLink1Description: Manufacturer URL; ComponentLink1URL: http://www.analog.com/en/index.html; ComponentLink2Description: Datasheet; ComponentLink2URL: http://www.analog.com/static/imported-files/data_sheets/AD7943_7945_7948.pdf; ComponentLink3Description: Package Specification; ComponentLink3URL: http://www.analog.com/static/imported-files/packages/44768431550332N_16.pdf; ComponentLink4Description: Product URL; ComponentLink4URL: http://www.analog.com/en/digital-to-analog-converters/da-converters/ad7943/products/product.html
footprint N-16 (DIP, 16-Leads, Row Spacing 7.62mm, Pitch 2.54mm, Body 20.1x6.6mm)
pins: 1 IOUT1 (out) "DAC current output terminal 1.", 2 IOUT2 "DAC current output terminal 2. This should be connected to the AGND pin.", 3 AGND (power) "This pin connects to the back gates of the current steering switches. In normal operation, it should be connected to the signal ground of the system. In biased single-supply operation it may be biased to some voltage between (See Datasheet)", 4 STB1 (in) "This is the Strobe 1 input. Data is clocked into the input shift register on the rising edge of this signal. S\T\B\3\ must be high. STB2, STB4 must be low.", 5 ~{LD1} (in) "Active low inputs. When both of these are low, the DAC register is updated and the output will change to reflect this.", 6 SRO (out), 7 SRI (in) "Serial Data Input. Data on this line will be clocked into the input shift register on one of the Strobe inputs, when they are enabled.", 8 STB2 (in) "This is the Strobe 2 input. Data is clocked into the input shift register on the rising edge of this signal. S\T\B\3\ must be high. STB1, STB4 must be low.", 9 ~{LD2} (in) "Active low inputs. When both of these are low, the DAC register is updated and the output will change to reflect this.", 10 ~{STB3} (in) "This is the Strobe 3 input. Data is clocked into the input shift register on the falling edge of this signal. STB1, STB2, STB4, must be low.", 11 STB4 (in) "This is the Strobe 4 input. Data is clocked into the input shift register on the rising edge of this signal. S\T\B\3\ must be high. STB1, STB2 must be low.", 12 DGND (power) "Digital Ground.", 13 ~{CLR} (in) "Asynchronous C\L\R\ input. When this input is taken low, all 0s are loaded to the DAC latch.", 14 VDD (power) "Power supply input. This is nominally +5 V for Normal Mode Operation and +3.3 V to +5 V for Biased Mode Operation.", 15 VREF (in) "DAC reference input.", 16 RFB (in) "DAC feedback resistor pin."

## AD7943BNZ
designator U?
Single 12-Bit Multiplying Digital-to-Analog Converter, 3.3 V / 5 V, -40 to +85 degC, N-16, Pb-Free, Tube; Generic Part Number: AD7943; Manufacturer: Analog Devices; PartNumber: AD7943BNZ; # DAC Outputs: 1; Max V+: 5.5V; Op Pwr Diss: 25µW; Resolution (Bits): 12; Settling Time: 600ns; Single Supply: Yes; DatasheetVersion: Rev.B; PackageVersion: 070706-A; PackageReference: N-16; PackageDescription: 16-Lead Plastic Dual In-Line Package [PDIP] Narrow Body; Supplier 1: Digi-Key; Supplier Part Number 1: AD7943BNZ-ND; Supplier 2: Farnell; Supplier Part Number 2: 1079421; Supplier 3: Newark; Supplier Part Number 3: 31M4415; Supplier 4: Mouser; Supplier Part Number 4: 584-AD7943BNZ; Packing: Tube; RoHS: Y; Mounting Technology: Through Hole; Code_JEDEC: MS-001; ComponentLink1Description: Manufacturer URL; ComponentLink1URL: http://www.analog.com/en/index.html; ComponentLink2Description: Datasheet; ComponentLink2URL: http://www.analog.com/static/imported-files/data_sheets/AD7943_7945_7948.pdf; ComponentLink3Description: Package Specification; ComponentLink3URL: http://www.analog.com/static/imported-files/packages/44768431550332N_16.pdf; ComponentLink4Description: Product URL; ComponentLink4URL: http://www.analog.com/en/digital-to-analog-converters/da-converters/ad7943/products/product.html
footprint N-16 (DIP, 16-Leads, Row Spacing 7.62mm, Pitch 2.54mm, Body 20.1x6.6mm)
pins: 1 IOUT1 (out) "DAC current output terminal 1.", 2 IOUT2 "DAC current output terminal 2. This should be connected to the AGND pin.", 3 AGND (power) "This pin connects to the back gates of the current steering switches. In normal operation, it should be connected to the signal ground of the system. In biased single-supply operation it may be biased to some voltage between (See Datasheet)", 4 STB1 (in) "This is the Strobe 1 input. Data is clocked into the input shift register on the rising edge of this signal. S\T\B\3\ must be high. STB2, STB4 must be low.", 5 ~{LD1} (in) "Active low inputs. When both of these are low, the DAC register is updated and the output will change to reflect this.", 6 SRO (out), 7 SRI (in) "Serial Data Input. Data on this line will be clocked into the input shift register on one of the Strobe inputs, when they are enabled.", 8 STB2 (in) "This is the Strobe 2 input. Data is clocked into the input shift register on the rising edge of this signal. S\T\B\3\ must be high. STB1, STB4 must be low.", 9 ~{LD2} (in) "Active low inputs. When both of these are low, the DAC register is updated and the output will change to reflect this.", 10 ~{STB3} (in) "This is the Strobe 3 input. Data is clocked into the input shift register on the falling edge of this signal. STB1, STB2, STB4, must be low.", 11 STB4 (in) "This is the Strobe 4 input. Data is clocked into the input shift register on the rising edge of this signal. S\T\B\3\ must be high. STB1, STB2 must be low.", 12 DGND (power) "Digital Ground.", 13 ~{CLR} (in) "Asynchronous C\L\R\ input. When this input is taken low, all 0s are loaded to the DAC latch.", 14 VDD (power) "Power supply input. This is nominally +5 V for Normal Mode Operation and +3.3 V to +5 V for Biased Mode Operation.", 15 VREF (in) "DAC reference input.", 16 RFB (in) "DAC feedback resistor pin."